# EAGLE library part 62534020621 (library Wire_to_Board_Connectors_rev15d)
WR-BHD 2.00mm Male SMT Box Header High Temperature, 40 Pins=>Code : Con_WTB_BHD_2.00_Male_SMT_62534020621 <http://katalog.we-online.de/media/thumbs2/eican/thb_Con_WTB_BHD_2.00_Male_SMT_6253xx20621_pf2.jpg> Details see: http://katalog.we-online.de/en/em/625_3xx_206_21 Created 2014-06-05, Karrer Zheng 2014 (C) Würth Elektronik
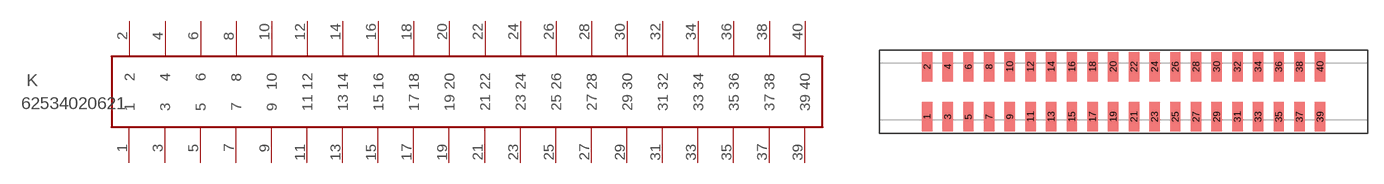
[diagram p272: symbol with the pads of 62534020621; footprint 62534020621]

Designator prefix K

## 62534020621  [62534020621]
1  1  pas
2  2  pas
3  3  pas
4  4  pas
5  5  pas
6  6  pas
7  7  pas
8  8  pas
9  9  pas
10  10  pas
11  11  pas
12  12  pas
13  13  pas
14  14  pas
15  15  pas
16  16  pas
17  17  pas
18  18  pas
19  19  pas
20  20  pas
21  21  pas
22  22  pas
23  23  pas
24  24  pas
25  25  pas
26  26  pas
27  27  pas
28  28  pas
29  29  pas
30  30  pas
31  31  pas
32  32  pas
33  33  pas
34  34  pas
35  35  pas
36  36  pas
37  37  pas
38  38  pas
39  39  pas
40  40  pas

## Footprint 62534020621 (pad centres in mm)
WRBHD-2.00mm Male SMT Box Header High Temperature,40 pins
smd 1 x 2.85: 1 -15,-2.425; 2 -15,2.425; 3 -13,-2.425; 4 -13,2.425; 5 -11,-2.425; 6 -11,2.425; 7 -9,-2.425; 8 -9,2.425; 9 -7,-2.425; 10 -7,2.425; 11 -5,-2.425; 12 -5,2.425; 13 -3,-2.425; 14 -3,2.425; 15 -1,-2.425; 16 -1,2.425; 17 1,-2.425; 18 1,2.425; 19 3,-2.425; 20 3,2.425; 21 5,-2.425; 22 5,2.425; 23 7,-2.425; 24 7,2.425; 25 9,-2.425; 26 9,2.425; 27 11,-2.425; 28 11,2.425; 29 13,-2.425; 30 13,2.425; 31 15,-2.425; 32 15,2.425; 33 17,-2.425; 34 17,2.425; 35 19,-2.425; 36 19,2.425; 37 21,-2.425; 38 21,2.425; 39 23,-2.425; 40 23,2.425